# Altium schematic symbol library Sch1-schlib.SchLib: 19 symbols
Pins are listed as number, name and electrical type; pins without a type are passive.

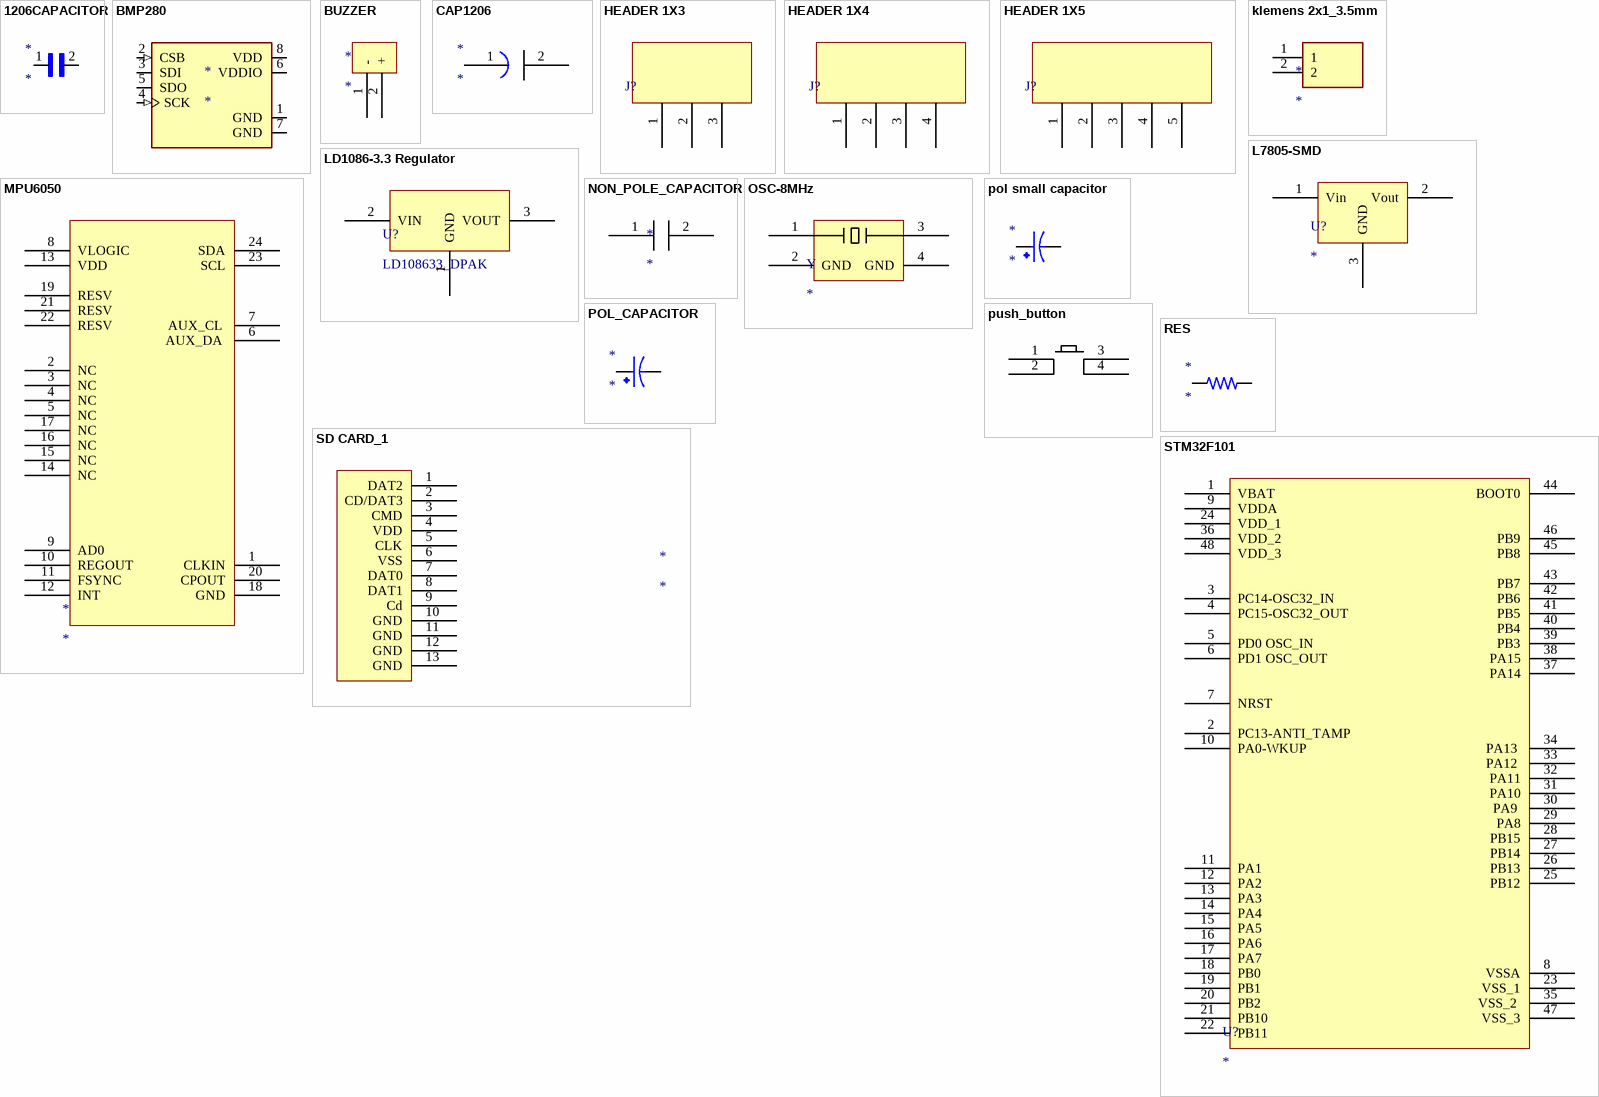
[diagram p0: symbols 1206CAPACITOR to STM32F101]

## 1206CAPACITOR
designator *
footprint 1206CAPACITOR
pins: 1, 2

## BMP280
designator *
footprint BMP280 (gyro ve ivmeölçer)
pins: 1 GND (power), 2 CSB (in), 3 SDI (io), 4 SCK (in), 5 SDO (io), 6 VDDIO (power), 7 GND (power), 8 VDD (power)

## BUZZER
designator *
footprint Buzzer
pins: 1 -, 2 +

## CAP1206
designator *
footprint CAP1206
pins: 1, 2

## HEADER 1X3
designator J?
footprint HEADER 1X3_2.54
pins: 1, 2, 3

## HEADER 1X4
designator J?
footprint HEADER 1X4_2.54mm
pins: 1, 2, 3, 4

## HEADER 1X5
designator J?
footprint HEADER 1X5_2.54mm
pins: 1, 2, 3, 4, 5

## klemens 2x1_3.5mm
designator *
footprint KLEMENS 2X1_3.5mm - duplicate
pins: 1, 2

## L7805-SMD
designator U?
L7805-SMD REGULATOR
footprint DPAK228P968X230-3N (D-PAK, 3-Pads, Body 6,40x6,56mm (max), IPC Medium Density)
pins: 1 Vin, 2 Vout, 3 GND

## LD1086-3.3 Regulator
designator U?, comment LD108633_DPAK
footprint LD1086 3.3 REGULATOR (D-PAK, 3-Pads, Body 6,15x6,61mm (max), IPC Medium Density)
pins: 1 GND, 2 VIN, 3 VOUT

## MPU6050
designator *
footprint MPU6050 (ivme gyro ölçer)
pins: 1 CLKIN, 2 NC , 3 NC , 4 NC , 5 NC , 6 AUX_DA , 7 AUX_CL , 8 VLOGIC , 9 AD0, 10 REGOUT, 11 FSYNC, 12 INT, 13 VDD, 14 NC, 15 NC, 16 NC, 17 NC, 18 GND, 19 RESV, 20 CPOUT, 21 RESV, 22 RESV, 23 SCL, 24 SDA

## NON_POLE_CAPACITOR
designator *
footprint CAP1206
pins: 1, 2

## OSC-8MHz
designator Y
footprint OSC KRISTAL
pins: 1, 2 GND, 3, 4 GND

## pol small capacitor
designator *
footprint pol_smal_capacitor
pins: 1, 2

## POL_CAPACITOR
designator *
footprint POL_CAPACITOR
pins: 1, 2

## push_button
designator ?
footprint push_button
pins: 1, 2, 3, 4

## RES
designator *
footprint RES
pins: 1, 2

## SD CARD_1
designator *
footprint SD CARD
pins: 1 DAT2, 2 CD/DAT3, 3 CMD, 4 VDD, 5 CLK, 6 VSS, 7 DAT0, 8 DAT1, 9 Cd, 10 GND, 11 GND, 12 GND, 13 GND

## STM32F101
designator U?
DATASHEET: https://datasheetspdf.com/pdf-file/598718/STMicroelectronics/STM32F101xB/1
footprint PQFP48-STM (TSQFP, 48-Leads, Body 7,00x7,00mm, Pitch 0,50mm, IPC Medium Density)
pins: 1 VBAT, 2 PC13-ANTI_TAMP, 3 PC14-OSC32_IN, 4 PC15-OSC32_OUT, 5 PD0 OSC_IN, 6 PD1 OSC_OUT, 7 NRST, 8 VSSA, 9 VDDA, 10 PA0-WKUP, 11 PA1, 12 PA2, 13 PA3, 14 PA4, 15 PA5, 16 PA6, 17 PA7, 18 PB0, 19 PB1, 20 PB2, 21 PB10, 22 PB11, 23 VSS_1, 24 VDD_1, 25 PB12, 26 PB13, 27 PB14, 28 PB15, 29 PA8, 30 PA9 , 31 PA10, 32 PA11, 33 PA12 , 34 PA13 , 35 VSS_2 , 36 VDD_2, 37 PA14, 38 PA15, 39 PB3, 40 PB4, 41 PB5, 42 PB6, 43 PB7, 44 BOOT0, 45 PB8, 46 PB9, 47 VSS_3, 48 VDD_3